# EAGLE library part AD1851 (library analog_devices)
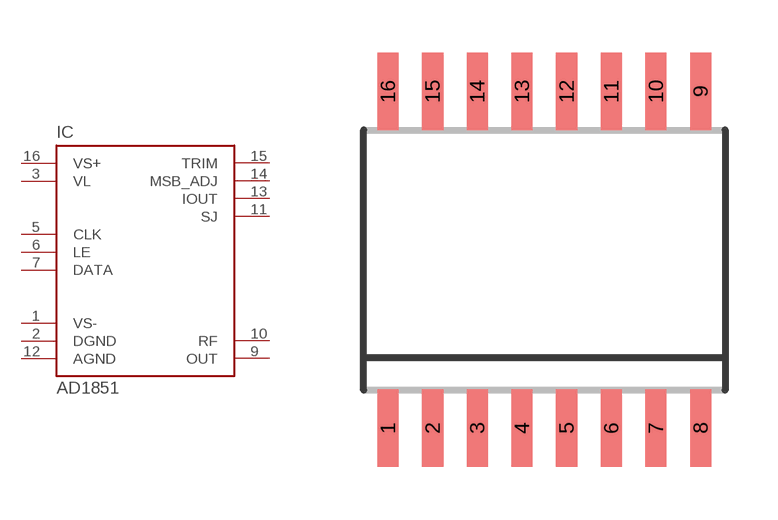
[diagram p1: symbol with the pads of SOIC16R; footprint SOIC16R]

Designator prefix IC

## AD1851  [SOIC16R]
1  VS-
2  DGND
3  VL
5  CLK
6  LE
7  DATA
9  OUT
10  RF
11  SJ
12  AGND
13  IOUT
14  MSB_ADJ
15  TRIM
16  VS+

## Footprint SOIC16R (pad centres in mm)
16-Lead SOIC (R) Package Source: http://www.analog.com/static/imported-files/data_sheets/AD745.pdf
smd 0.6 x 2.2: 1 -4.445,-4.775; 2 -3.175,-4.775; 3 -1.905,-4.775; 4 -0.635,-4.775; 5 0.635,-4.775; 6 1.905,-4.775; 7 3.175,-4.775; 8 4.445,-4.775; 9 4.445,4.8; 10 3.175,4.8; 11 1.905,4.8; 12 0.635,4.8; 13 -0.635,4.8; 14 -1.905,4.8; 15 -3.175,4.8; 16 -4.445,4.8